# EAGLE library part OP2177CRMZ (library OP2177CRMZ)
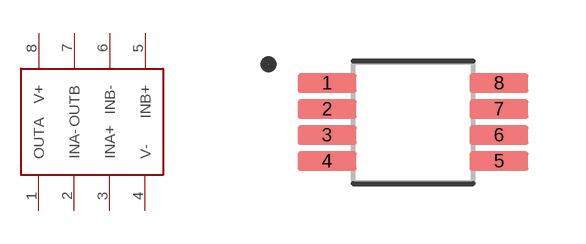
[diagram p0: symbol with the pads of SOP65P490X110-8N; footprint SOP65P490X110-8N]

Designator prefix IC

## OP2177CRMZ  [SOP65P490X110-8N]
1  OUTA
2  INA-
3  INA+
4  V-
5  INB+
6  INB-
7  OUTB
8  V+

## Footprint SOP65P490X110-8N (pad centres in mm)
smd 1.47 x 0.48: 1 -2.15,0.975; 2 -2.15,0.325; 3 -2.15,-0.325; 4 -2.15,-0.975; 5 2.15,-0.975; 6 2.15,-0.325; 7 2.15,0.325; 8 2.15,0.975